# Altium integrated library SignalCommunications.IntLib: 804 symbols (part 1 of 10)
Pins are listed as number, name and electrical type; pins without a type are passive.

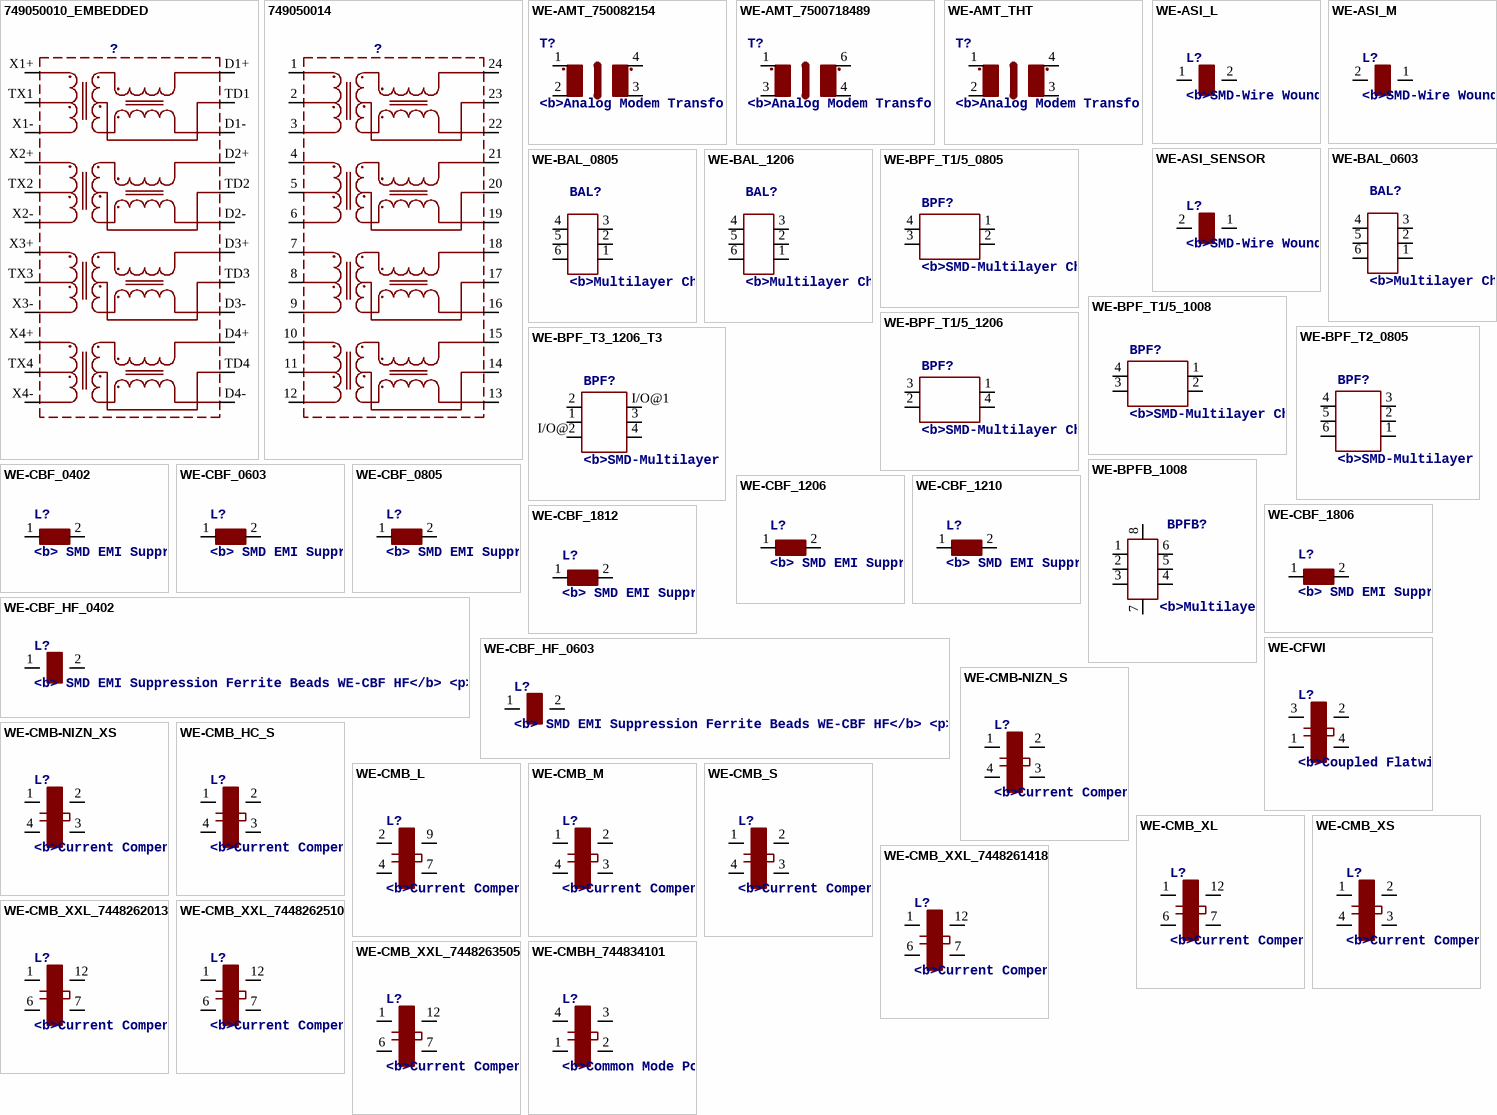
[diagram p0: symbols 749050010_EMBEDDED to WE-CMBH_744834101]

## 749050010_EMBEDDED
designator ?
pins: D1+, D1-, D2+, D2-, D3+, D3-, D4+, D4-, TD1, TD2, TD3, TD4, TX1, TX2, TX3, TX4, X1+, X1-, X2+, X2-, X3+, X3-, X4+, X4-

## 749050014
designator ?
footprint 749050010_A
pins: 1 X1+, 2 TX1, 3 X1-, 4 X2+, 5 TX2, 6 X2-, 7 X3+, 8 TX3, 9 X3-, 10 X4+, 11 TX4, 12 X4-, 13 D4-, 14 TD4, 15 D4+, 16 D3-, 17 TD3, 18 D3+, 19 D2-, 20 TD2, 21 D2+, 22 D1-, 23 TD1, 24 D1+

## WE-AMT_750082154
designator T?, comment <b>Analog Modem Transformer WE-AMT</b><p> / - SMD and THT<br> / - Small size<br> / - Flat profile<br> / - V.90 performance (SmartDAA TM)<br> / - Released for Conexant SmartDAA TM solution<br><br> / -- Analog Modems
footprint WE-AMT_750082154
pins: 1, 2 3, 3 4, 4 6

## WE-AMT_7500718489
designator T?, comment <b>Analog Modem Transformer WE-AMT</b><p> / - SMD and THT<br> / - Small size<br> / - Flat profile<br> / - V.90 performance (SmartDAA TM)<br> / - Released for Conexant SmartDAA TM solution<br><br> / -- Analog Modems
footprint WE-AMT_7500718489
pins: 1, 3, 4, 6

## WE-AMT_THT
designator T?, comment <b>Analog Modem Transformer WE-AMT</b><p> / - SMD and THT<br> / - Small size<br> / - Flat profile<br> / - V.90 performance (SmartDAA TM)<br> / - Released for Conexant SmartDAA TM solution<br><br> / -- Analog Modems
footprint WE-AMT_750082107_750082111_7500718001
pins: 1, 2 3, 3 4, 4 6

## WE-ASI_L
designator L?, comment <b>SMD-Wire Wound Inductor WE-ASI</b><p> / - Specially constructed for sensors and actuators<br> / - Highest possible current in the smallest case size<br> / - High self resonant frequency<br><br> / -- Especially designed for Automation Standard Interface applications
footprint WE-ASI_L
pins: 1, 2

## WE-ASI_M
designator L?, comment <b>SMD-Wire Wound Inductor WE-ASI</b><p> / - Specially constructed for sensors and actuators<br> / - Highest possible current in the smallest case size<br> / - High self resonant frequency<br><br> / -- Especially designed for Automation Standard Interface applications
footprint WE-ASI_M
pins: 1 2, 2 1

## WE-ASI_SENSOR
designator L?, comment <b>SMD-Wire Wound Inductor WE-ASI</b><p> / - Specially constructed for sensors and actuators<br> / - Highest possible current in the smallest case size<br> / - High self resonant frequency<br><br> / -- Especially designed for Automation Standard Interface applications
footprint WE-ASI_SENSOR
pins: 1 2, 2 1

## WE-BAL_0603
designator BAL?, comment <b>Multilayer Chip Baluns WE-BAL</b><p> / - Low loss SMD Balun with balanced impedance of 50 to 200 Ohm<br> / - Operating temperature: -40°C to +85°C<br> / - Power Capacity: 3 W max.<br><br> / -- RF-applications in the area of 0.8 to 6 GHz<br> / -- Download S-Parameter on www.we-online.com<br> / -- Wireless communication systems like DECT, PACS, PHS, GSM, WLAN, Bluetooth
footprint WE-BAL_0603
pins: 1, 2, 3, 4, 5, 6

## WE-BAL_0805
designator BAL?, comment <b>Multilayer Chip Baluns WE-BAL</b><p> / - Low loss SMD Balun with balanced impedance of 50 to 200 Ohm<br> / - Operating temperature: -40°C to +85°C<br> / - Power Capacity: 3 W max.<br><br> / -- RF-applications in the area of 0.8 to 6 GHz<br> / -- Download S-Parameter on www.we-online.com<br> / -- Wireless communication systems like DECT, PACS, PHS, GSM, WLAN, Bluetooth
footprint WE-BAL_0805
pins: 1, 2, 3, 4, 5, 6

## WE-BAL_1206
designator BAL?, comment <b>Multilayer Chip Baluns WE-BAL</b><p> / - Low loss SMD Balun with balanced impedance of 50 to 200 Ohm<br> / - Operating temperature: -40°C to +85°C<br> / - Power Capacity: 3 W max.<br><br> / -- RF-applications in the area of 0.8 to 6 GHz<br> / -- Download S-Parameter on www.we-online.com<br> / -- Wireless communication systems like DECT, PACS, PHS, GSM, WLAN, Bluetooth
footprint WE-BAL_1206
pins: 1, 2, 3, 4, 5, 6

## WE-BPF_T1/5_0805
designator BPF?, comment <b>SMD-Multilayer Chip Band-Pass Filter WE-BPF</b><p> / - low insertion loss<br> / - High attenuation<br> / - Guaranteed filter characteristics over a wide temperature range<p> / -- Rf applications in the frequency range up to 6GHz<br> / -- Wireless communcation systems like DECT, PACS, PHS, GSM,WLAN,Bluetooth,..
footprint WE-BPF_0805_T1
pins: 1 GND, 2 OUT, 3 GND, 4 IN

## WE-BPF_T1/5_1008
designator BPF?, comment <b>SMD-Multilayer Chip Band-Pass Filter WE-BPF</b><p> / - low insertion loss<br> / - High attenuation<br> / - Guaranteed filter characteristics over a wide temperature range<p> / -- Rf applications in the frequency range up to 6GHz<br> / -- Wireless communcation systems like DECT, PACS, PHS, GSM,WLAN,Bluetooth,..
footprint WE-BPF_1008_T5
pins: 1 GND, 2 OUT, 3 GND, 4 IN

## WE-BPF_T1/5_1206
designator BPF?, comment <b>SMD-Multilayer Chip Band-Pass Filter WE-BPF</b><p> / - low insertion loss<br> / - High attenuation<br> / - Guaranteed filter characteristics over a wide temperature range<p> / -- Rf applications in the frequency range up to 6GHz<br> / -- Wireless communcation systems like DECT, PACS, PHS, GSM,WLAN,Bluetooth,..
footprint WE-BPF_1206_T1
pins: 1 GND, 2 GND, 3 IN, 4 OUT

## WE-BPF_T2_0805
designator BPF?, comment <b>SMD-Multilayer Chip Band-Pass Filter WE-BPF</b><p> / - low insertion loss<br> / - High attenuation<br> / - Guaranteed filter characteristics over a wide temperature range<p> / -- Rf applications in the frequency range up to 6GHz<br> / -- Wireless communcation systems like DECT, PACS, PHS, GSM,WLAN,Bluetooth,..
footprint WE-BPF_0805_T2
pins: 1 GND, 2 GND, 3 I/O, 4 GND, 5 GND, 6 I/O

## WE-BPF_T3_1206_T3
designator BPF?, comment <b>SMD-Multilayer Chip Band-Pass Filter WE-BPF</b><p> / - low insertion loss<br> / - High attenuation<br> / - Guaranteed filter characteristics over a wide temperature range<p> / -- Rf applications in the frequency range up to 6GHz<br> / -- Wireless communcation systems like DECT, PACS, PHS, GSM,WLAN,Bluetooth,..
footprint WE-BPF_1206_T3
pins: 1 GND, 2 GND, 3 GND, 4 GND, I/O@1 I/O, I/O@2 I/O

## WE-BPFB_1008
designator BPFB?, comment <b>Multilayer SMD Band-Pass Filter with Balun WE-BPFB</b><br> / <br> / - Low insertion loss<br> / - High attenuation in the stop zone<br> / - Impedance ration 50:100<br> / - Power capacity: 1 W max.<br> / - Operating temperature: -40°C up to +85°C<br><br> / -- 2,4 GHz WLAN<br> / -- Home RF<br> / -- Bluetooth
footprint WE-BPFB_1008
pins: 1 NC, 2 UNBAL.P, 3 NC/DC, 4 BAL.P, 5 NC, 6 BAL.P, 7 GND, 8 GND

## WE-CBF_0402
designator L?, comment <b> SMD EMI Suppression Ferrite Beads WE-CBF</b> <p> / - Excellent anti-EMI properties <br> / - Low DC-restistance <br> / - Impedances till 3000 ohms <br> / - Rated current up to 6 A<p> / -- Reliable Ni-Sn electrodes<br> / -- Perfect as data lined filter and for uncoupling of distribution voltage<br>
footprint 0402
pins: 1, 2

## WE-CBF_0603
designator L?, comment <b> SMD EMI Suppression Ferrite Beads WE-CBF</b> <p> / - Excellent anti-EMI properties <br> / - Low DC-restistance <br> / - Impedances till 3000 ohms <br> / - Rated current up to 6 A<p> / -- Reliable Ni-Sn electrodes<br> / -- Perfect as data lined filter and for uncoupling of distribution voltage<br>
footprint 0603
pins: 1, 2

## WE-CBF_0805
designator L?, comment <b> SMD EMI Suppression Ferrite Beads WE-CBF</b> <p> / - Excellent anti-EMI properties <br> / - Low DC-restistance <br> / - Impedances till 3000 ohms <br> / - Rated current up to 6 A<p> / -- Reliable Ni-Sn electrodes<br> / -- Perfect as data lined filter and for uncoupling of distribution voltage<br>
footprint 0805
pins: 1, 2

## WE-CBF_1206
designator L?, comment <b> SMD EMI Suppression Ferrite Beads WE-CBF</b> <p> / - Excellent anti-EMI properties <br> / - Low DC-restistance <br> / - Impedances till 3000 ohms <br> / - Rated current up to 6 A<p> / -- Reliable Ni-Sn electrodes<br> / -- Perfect as data lined filter and for uncoupling of distribution voltage<br>
footprint 1206
pins: 1, 2

## WE-CBF_1210
designator L?, comment <b> SMD EMI Suppression Ferrite Beads WE-CBF</b> <p> / - Excellent anti-EMI properties <br> / - Low DC-restistance <br> / - Impedances till 3000 ohms <br> / - Rated current up to 6 A<p> / -- Reliable Ni-Sn electrodes<br> / -- Perfect as data lined filter and for uncoupling of distribution voltage<br>
footprint 1210
pins: 1, 2

## WE-CBF_1806
designator L?, comment <b> SMD EMI Suppression Ferrite Beads WE-CBF</b> <p> / - Excellent anti-EMI properties <br> / - Low DC-restistance <br> / - Impedances till 3000 ohms <br> / - Rated current up to 6 A<p> / -- Reliable Ni-Sn electrodes<br> / -- Perfect as data lined filter and for uncoupling of distribution voltage<br>
footprint 1806
pins: 1, 2

## WE-CBF_1812
designator L?, comment <b> SMD EMI Suppression Ferrite Beads WE-CBF</b> <p> / - Excellent anti-EMI properties <br> / - Low DC-restistance <br> / - Impedances till 3000 ohms <br> / - Rated current up to 6 A<p> / -- Reliable Ni-Sn electrodes<br> / -- Perfect as data lined filter and for uncoupling of distribution voltage<br>
footprint 1812
pins: 1, 2

## WE-CBF_HF_0402
designator L?, comment <b> SMD EMI Suppression Ferrite Beads WE-CBF HF</b> <p>
footprint 0402
pins: 1, 2

## WE-CBF_HF_0603
designator L?, comment <b> SMD EMI Suppression Ferrite Beads WE-CBF HF</b> <p>
footprint 0603
pins: 1, 2

## WE-CFWI
designator L?, comment <b>Coupled Flatwire Inductor WE-CFWI</b><p> / - Very low RDC<br> / - Low inductance drift over temperature<br> / - Operating temperature: –40 °C up to +150 °C<br> / - Coupled inductor with two identical windings<br> / - More variants due to parallel and serie connection<p> / -- High power switching regulators<br> / -- 1:1 flyback converter<br> / --  Buck, Boost, Sepic and Cuk Converter<br> / -- Switching regulators with secondary unregulated output voltage<br> / -- Battery Cell Charging Balancer
MANUFACTURER: Würth Elektronik eiSos GmbH; CREATED-BY: Christin Otto; COMPANY-URL: http://we-online.de; CREATED-DATE: August 2013; DATASHEET-URL: http://katalog.we-online.de/de/pbs/WE-CFWI?sid=1d9d32b2a9
footprint WE-CFWI
pins: 1, 2 4, 3, 4 2

## WE-CMB-NIZN_S
designator L?, comment <b>Current Compensated Choke WE-CMB NiZn</b><p> / You can reach high suppressions of asymmetric <br> / interferences at middle and high frequency ranges<br> / - Increases noise immunity with HF-irradiation and burst-signals <br> / - Noise suppression up to 300 MHz<br> / <br> / -- Power electronics<br> / -- Power line in- and output filter<br>
footprint WE-CMB_NIZN_S
pins: 1 3, 2 4, 3 2, 4 1

## WE-CMB-NIZN_XS
designator L?, comment <b>Current Compensated Choke WE-CMB NiZn</b><p> / You can reach high suppressions of asymmetric <br> / interferences at middle and high frequency ranges<br> / - Increases noise immunity with HF-irradiation and burst-signals <br> / - Noise suppression up to 300 MHz<br> / <br> / -- Power electronics<br> / -- Power line in- and output filter<br>
footprint WE-CMB_NIZN_XS
pins: 1 3, 2 4, 3 2, 4 1

## WE-CMB_HC_S
designator L?, comment <b>Current Compensated Choke WE-CMB HC</b><p> / You can reach high suppressions of asymmetric <br> / interferences even at low frequency ranges<br> / - Broadband screening because of anticapacitance coiling technique<br> / - Highest posssible current with small sizes<br> / - High interference comppression asymmetric interlerence rates also at low frequenca range<br> / <br> / -- Power electronics<br> / -- Power line in- and output filter<br> / -- For filtering of devices without a stable ground connection<br> / -- Radio interference suppression in motors
footprint WE-CMB_HC_S
pins: 1 3, 2 4, 3 2, 4 1

## WE-CMB_L
designator L?, comment <b>Current Compensated Choke WE-CMB</b><p> / You can reach high suppressions of asymmetric <br> / interferences even at low frequency ranges<br> / - Broadband screening because of anticapacitance coiling technique<br> / - Highest posssible current with small sizes<br> / - High interference comppression asymmetric interlerence rates also at low frequenca range<br> / <br> / -- Power electronics<br> / -- Power line in- and output filter<br> / -- For filtering of devices without a stable ground connection<br> / -- Radio interference suppression in motors
footprint WE-CMB_L
pins: 2 3, 4 1, 7 2, 9 4

## WE-CMB_M
designator L?, comment <b>Current Compensated Choke WE-CMB</b><p> / You can reach high suppressions of asymmetric <br> / interferences even at low frequency ranges<br> / - Broadband screening because of anticapacitance coiling technique<br> / - Highest posssible current with small sizes<br> / - High interference comppression asymmetric interlerence rates also at low frequenca range<br> / <br> / -- Power electronics<br> / -- Power line in- and output filter<br> / -- For filtering of devices without a stable ground connection<br> / -- Radio interference suppression in motors
footprint WE-CMB_M
pins: 1 3, 2 4, 3 2, 4 1

## WE-CMB_S
designator L?, comment <b>Current Compensated Choke WE-CMB</b><p> / You can reach high suppressions of asymmetric <br> / interferences even at low frequency ranges<br> / - Broadband screening because of anticapacitance coiling technique<br> / - Highest posssible current with small sizes<br> / - High interference comppression asymmetric interlerence rates also at low frequenca range<br> / <br> / -- Power electronics<br> / -- Power line in- and output filter<br> / -- For filtering of devices without a stable ground connection<br> / -- Radio interference suppression in motors
footprint WE-CMB_S
pins: 1 3, 2 4, 3 2, 4 1

## WE-CMB_XL
designator L?, comment <b>Current Compensated Choke WE-CMB</b><p> / You can reach high suppressions of asymmetric <br> / interferences even at low frequency ranges<br> / - Broadband screening because of anticapacitance coiling technique<br> / - Highest posssible current with small sizes<br> / - High interference comppression asymmetric interlerence rates also at low frequenca range<br> / <br> / -- Power electronics<br> / -- Power line in- and output filter<br> / -- For filtering of devices without a stable ground connection<br> / -- Radio interference suppression in motors
footprint WE-CMB_XL
pins: 1 3, 6 1, 7 2, 12 4

## WE-CMB_XS
designator L?, comment <b>Current Compensated Choke WE-CMB</b><p> / You can reach high suppressions of asymmetric <br> / interferences even at low frequency ranges<br> / - Broadband screening because of anticapacitance coiling technique<br> / - Highest posssible current with small sizes<br> / - High interference comppression asymmetric interlerence rates also at low frequenca range<br> / <br> / -- Power electronics<br> / -- Power line in- and output filter<br> / -- For filtering of devices without a stable ground connection<br> / -- Radio interference suppression in motors
footprint WE-CMB_XS
pins: 1 3, 2 4, 3 2, 4 1

## WE-CMB_XXL_7448261418
designator L?, comment <b>Current Compensated Choke WE-CMB</b><p> / You can reach high suppressions of asymmetric <br> / interferences even at low frequency ranges<br> / - Broadband screening because of anticapacitance coiling technique<br> / - Highest posssible current with small sizes<br> / - High interference comppression asymmetric interlerence rates also at low frequenca range<br> / <br> / -- Power electronics<br> / -- Power line in- and output filter<br> / -- For filtering of devices without a stable ground connection<br> / -- Radio interference suppression in motors
footprint WE-CMB_XXL_7448261418
pins: 1 3, 6 1, 7 2, 12 4

## WE-CMB_XXL_7448262013
designator L?, comment <b>Current Compensated Choke WE-CMB</b><p> / You can reach high suppressions of asymmetric <br> / interferences even at low frequency ranges<br> / - Broadband screening because of anticapacitance coiling technique<br> / - Highest posssible current with small sizes<br> / - High interference comppression asymmetric interlerence rates also at low frequenca range<br> / <br> / -- Power electronics<br> / -- Power line in- and output filter<br> / -- For filtering of devices without a stable ground connection<br> / -- Radio interference suppression in motors
footprint WE-CMB_XXL_7448262013
pins: 1 3, 6 1, 7 2, 12 4

## WE-CMB_XXL_7448262510
designator L?, comment <b>Current Compensated Choke WE-CMB</b><p> / You can reach high suppressions of asymmetric <br> / interferences even at low frequency ranges<br> / - Broadband screening because of anticapacitance coiling technique<br> / - Highest posssible current with small sizes<br> / - High interference comppression asymmetric interlerence rates also at low frequenca range<br> / <br> / -- Power electronics<br> / -- Power line in- and output filter<br> / -- For filtering of devices without a stable ground connection<br> / -- Radio interference suppression in motors
footprint WE-CMB_XXL_7448262510
pins: 1 3, 6 1, 7 2, 12 4

## WE-CMB_XXL_7448263505
designator L?, comment <b>Current Compensated Choke WE-CMB</b><p> / You can reach high suppressions of asymmetric <br> / interferences even at low frequency ranges<br> / - Broadband screening because of anticapacitance coiling technique<br> / - Highest posssible current with small sizes<br> / - High interference comppression asymmetric interlerence rates also at low frequenca range<br> / <br> / -- Power electronics<br> / -- Power line in- and output filter<br> / -- For filtering of devices without a stable ground connection<br> / -- Radio interference suppression in motors
footprint WE-CMB_XXL_7448263505
pins: 1 3, 6 1, 7 2, 12 4

## WE-CMBH_744834101
designator L?, comment <b>Common Mode Power Line Choke WE-CMBH</b><p> / You can reach high suppressions of asymmetric <br> / interferences even at low frequency ranges<br> / <b>- Horizontal design for compact housings</b><br> / - Suppression even at low frequency ranges<br> / - Broadband filtering because of low capacitance winding technique <bR> / - Highest possible currents with small sizes<br> / <br> / -- Power electronics<br> / -- Power line in- and output filter<br> / -- Radio interference suppression in motors<br> / -- Suppression of common mode noise
footprint WE-CMBH_1.5MM
pins: 1, 2, 3 4, 4 3

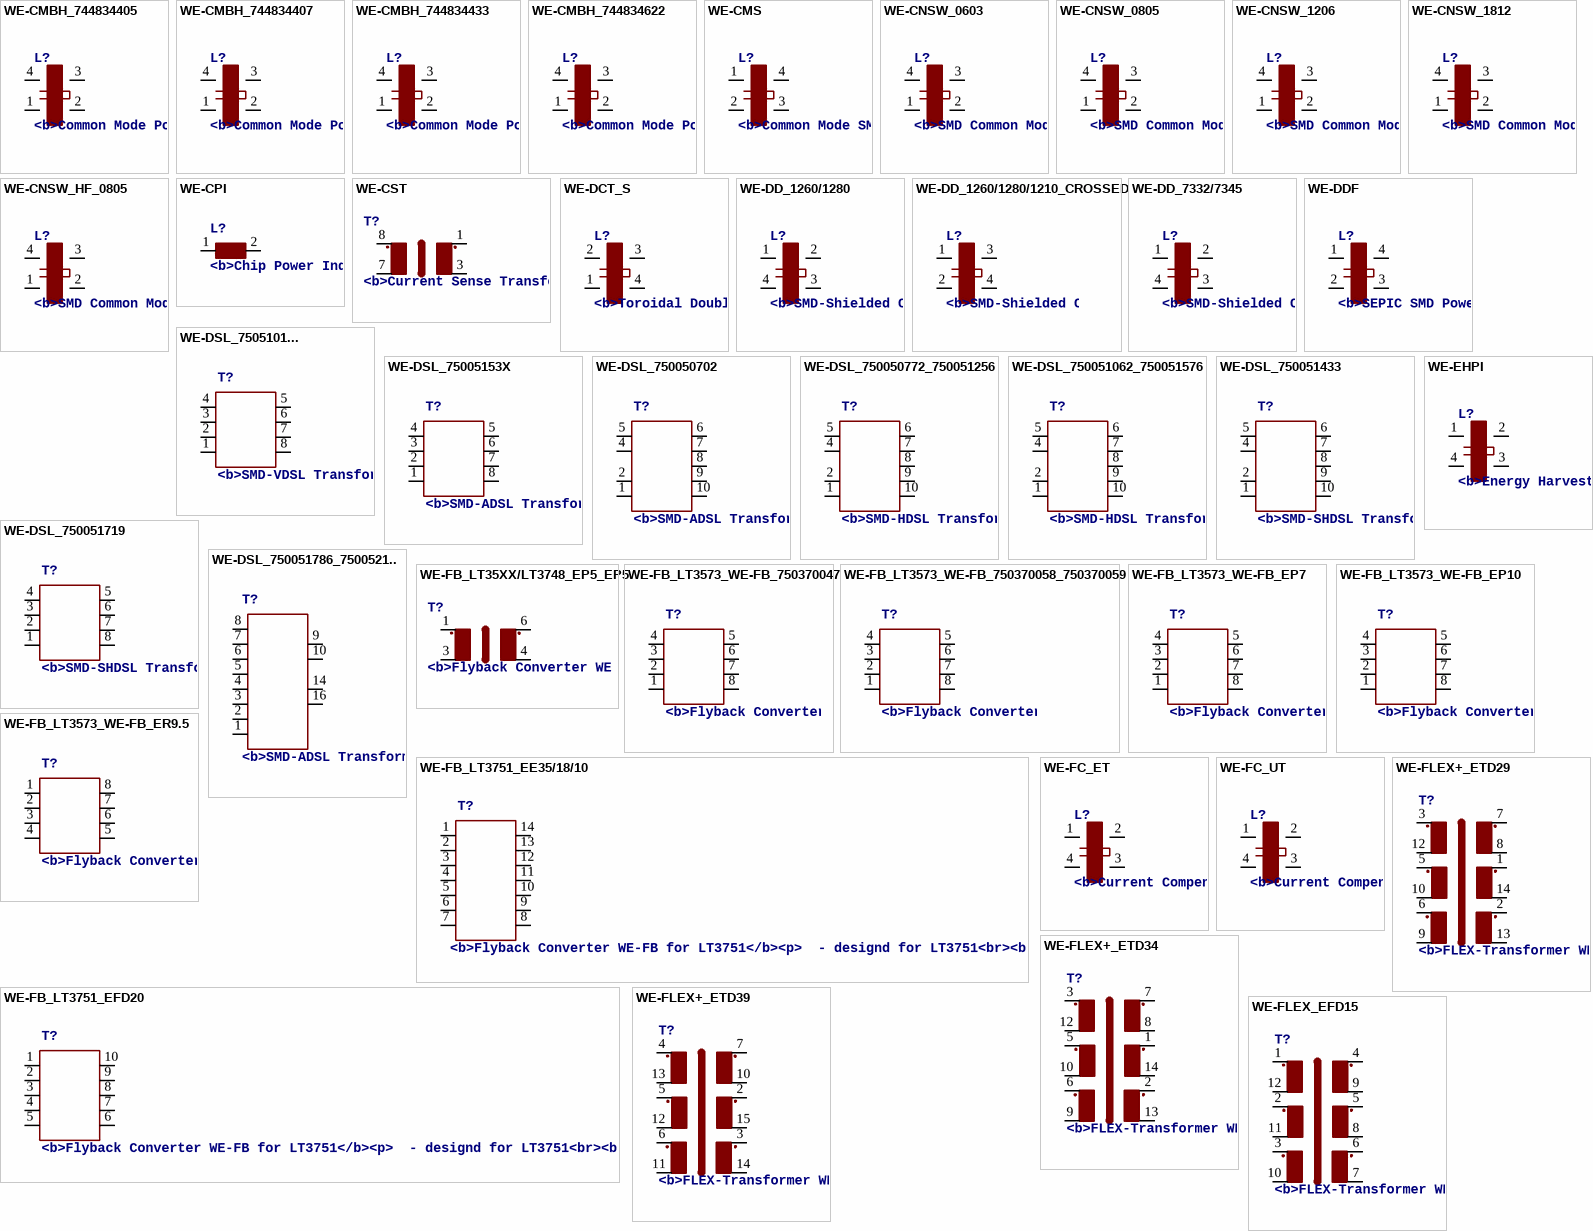
[diagram p1: symbols WE-CMBH_744834405 to WE-FLEX_EFD15]

## WE-CMBH_744834405
designator L?, comment <b>Common Mode Power Line Choke WE-CMBH</b><p> / You can reach high suppressions of asymmetric <br> / interferences even at low frequency ranges<br> / <b>- Horizontal design for compact housings</b><br> / - Suppression even at low frequency ranges<br> / - Broadband filtering because of low capacitance winding technique <bR> / - Highest possible currents with small sizes<br> / <br> / -- Power electronics<br> / -- Power line in- and output filter<br> / -- Radio interference suppression in motors<br> / -- Suppression of common mode noise
footprint WE-CMBH_1.2MM
pins: 1, 2, 3 4, 4 3

## WE-CMBH_744834407
designator L?, comment <b>Common Mode Power Line Choke WE-CMBH</b><p> / You can reach high suppressions of asymmetric <br> / interferences even at low frequency ranges<br> / <b>- Horizontal design for compact housings</b><br> / - Suppression even at low frequency ranges<br> / - Broadband filtering because of low capacitance winding technique <bR> / - Highest possible currents with small sizes<br> / <br> / -- Power electronics<br> / -- Power line in- and output filter<br> / -- Radio interference suppression in motors<br> / -- Suppression of common mode noise
footprint WE-CMBH_1.2MM
pins: 1, 2, 3 4, 4 3

## WE-CMBH_744834433
designator L?, comment <b>Common Mode Power Line Choke WE-CMBH</b><p> / You can reach high suppressions of asymmetric <br> / interferences even at low frequency ranges<br> / <b>- Horizontal design for compact housings</b><br> / - Suppression even at low frequency ranges<br> / - Broadband filtering because of low capacitance winding technique <bR> / - Highest possible currents with small sizes<br> / <br> / -- Power electronics<br> / -- Power line in- and output filter<br> / -- Radio interference suppression in motors<br> / -- Suppression of common mode noise
footprint WE-CMBH_1.2MM
pins: 1, 2, 3 4, 4 3

## WE-CMBH_744834622
designator L?, comment <b>Common Mode Power Line Choke WE-CMBH</b><p> / You can reach high suppressions of asymmetric <br> / interferences even at low frequency ranges<br> / <b>- Horizontal design for compact housings</b><br> / - Suppression even at low frequency ranges<br> / - Broadband filtering because of low capacitance winding technique <bR> / - Highest possible currents with small sizes<br> / <br> / -- Power electronics<br> / -- Power line in- and output filter<br> / -- Radio interference suppression in motors<br> / -- Suppression of common mode noise
footprint WE-CMBH_1.5MM
pins: 1, 2, 3 4, 4 3

## WE-CMS
designator L?, comment <b>Common Mode SMD Bead WE-CMA</b><p> / - Maximum current capability up to 5 A<br> / - Impedances up to 200 ohms<br> / - Low DC resistance with 3 mohms<p> / -- Power supply systems<br> / -- Symmetric data line
footprint WE-CMS_7427521
pins: 1 3, 2 1, 3 2, 4

## WE-CNSW_0603
designator L?, comment <b>SMD Common Mode Noise Suppressor WE-CNSW</b><p> / - High common mode suppression at high frequency<br> / - Small influence for high speed signals through winding symmetry<br><br> / -- USB 2.0<br> / -- Firewire / IEEE 1394 <br> / -- Power supply systems<br> / -- High Speed Data Lines<br> / -- Common mode data line filter
footprint WE-CNSW_0603
pins: 1, 2, 3 4, 4 3

## WE-CNSW_0805
designator L?, comment <b>SMD Common Mode Noise Suppressor WE-CNSW</b><p> / - High common mode suppression at high frequency<br> / - Small influence for high speed signals through winding symmetry<br><br> / -- USB 2.0<br> / -- Firewire / IEEE 1394 <br> / -- Power supply systems<br> / -- High Speed Data Lines<br> / -- Common mode data line filter
footprint WE-CNSW_0805
pins: 1, 2, 3 4, 4 3

## WE-CNSW_1206
designator L?, comment <b>SMD Common Mode Noise Suppressor WE-CNSW</b><p> / - High common mode suppression at high frequency<br> / - Small influence for high speed signals through winding symmetry<br><br> / -- USB 2.0<br> / -- Firewire / IEEE 1394 <br> / -- Power supply systems<br> / -- High Speed Data Lines<br> / -- Common mode data line filter
footprint WE-CNSW_1206
pins: 1, 2, 3 4, 4 3

## WE-CNSW_1812
designator L?, comment <b>SMD Common Mode Noise Suppressor WE-CNSW</b><p> / - High common mode suppression at high frequency<br> / - Small influence for high speed signals through winding symmetry<br><br> / -- USB 2.0<br> / -- Firewire / IEEE 1394 <br> / -- Power supply systems<br> / -- High Speed Data Lines<br> / -- Common mode data line filter
footprint WE-CNSW_1812
pins: 1, 2, 3 4, 4 3

## WE-CNSW_HF_0805
designator L?, comment <b>SMD Common Mode Noise Suppressor WE-CNSW HF</b><p> / - High common mode suppression at high frequency<br> / - Small influence for high speed signals through winding symmetry<br> / - Suitable for high data rates<br><br> / -- USB 3.0<br> / -- Firewire / IEEE 1394 <br> / -- HDMI<br> / -- High Speed Data Lines<br> / -- LVDS<br> / -- Common mode data line filter
footprint WE-CNSW_0805
pins: 1, 2, 3 4, 4 3

## WE-CPI
designator L?, comment <b>Chip Power Inductor WE-CPI</b><br><br> / - Extremely flat power inductor <= 1,1 mm<br> / - High current capability<br><br> / -- Portable power like PDA, digital camera, / PCMICA-cards and displays<br> / -- DC/DC-converter<br> / -- Recommended for switching regulator IC's from / Linear Technology, National Semiconductor, / Texas Instruments and Fairchild Semiconductor
footprint WE-CPI_744011...
pins: 1, 2

## WE-CST
designator T?, comment <b>Current Sense Transformer WE-CST</b><p> / - Height 5.33 mm max.<br> / - Frequency 50 kHz to 1 MHz<br> / - Primary current rating up to 10 A<br><br> / -- AC current detection<br> / -- Switch mode power supply
footprint WE-CST
pins: 1 6, 3 4, 7 3, 8 1

## WE-DCT_S
designator L?, comment <b>Toroidal Double Power Choke WE-DCT</b><br><br> / - very low RDC<br> / - very low core losses<br> / - saturation current higher up to 120A<br> / - low inductance drift over temerature<br> / - low laekage due to bifilar winding<br><br> / -- high power switching regulators<br> / -- solar inverter<br> / -- 1:1 flyback converter<br> / -- buck, bust, sepic and CUK converter
footprint WE-DCT
pins: 1, 2 3, 3 4, 4 2

## WE-DD_1260/1280
designator L?, comment <b>SMD-Shielded Coupled Inductor WE-DD </b><p> / - 1:1 transformer <br> / - Double inductor with two identical windings<br> / - Straight and crossed pin layout available<br> / - Customer specific designs available upon request<p> / -- for SEPIC and CUK topologies<br> / -- Flyback applications<br> / -- Switching regulators with second, unregulated output voltag
footprint WE-DD_1260/1280
pins: 1 3, 2 4, 3 2, 4 1

## WE-DD_1260/1280/1210_CROSSED
designator L?, comment <b>SMD-Shielded Coupled Inductor WE-DD </b><p> / - 1:1 transformer <br> / - Double inductor with two identical windings<br> / - Straight and crossed pin layout available<br> / - Customer specific designs available upon request<p> / -- for SEPIC and CUK topologies<br> / -- Flyback applications<br> / -- Switching regulators with second, unregulated output voltag
footprint WE-DD_12XX_CROSSED
pins: 1 3, 2 1, 3 4, 4 2

## WE-DD_7332/7345
designator L?, comment <b>SMD-Shielded Coupled Inductor WE-DD </b><p> / - 1:1 transformer <br> / - Double inductor with two identical windings<br> / - Straight and crossed pin layout available<br> / - Customer specific designs available upon request<p> / -- for SEPIC and CUK topologies<br> / -- Flyback applications<br> / -- Switching regulators with second, unregulated output voltag
footprint WE-DD_7332/7345
pins: 1 3, 2 4, 3 2, 4 1

## WE-DDF
designator L?, comment <b>SEPIC SMD Power Transformer WE-DDF</b><br><br> / - Extremely flat<br> / - 1:1 transformer<br> / - Double inductor with two identical windings<br><br> / -- SEPIC-switching regulators<br> / -- Switching regulators with second, / unregulated output voltage
footprint WE-DDF_744876...
pins: 1 3, 2 1, 3 2, 4

## WE-DSL_7505101...
designator T?, comment <b>SMD-VDSL Transformer WE-DSL</b><p> / - IEC60950 compatible<br><br> / -- for VDSL applications<br> / -- Matched to various manufacturers VDSL ICs
footprint WE_EP7_SMD_8PIN
pins: 1, 2, 3, 4, 5, 6, 7, 8

## WE-DSL_75005153X
designator T?, comment <b>SMD-ADSL Transformer WE-DSL</b><p> / - IEC60950 compatible<br><br> / -- for ADSL applications<br> / -- Matched to various manufacturers ADSL ICs
footprint WE_EP7_SMD_8PIN
pins: 1, 2, 3, 4, 5, 6, 7, 8

## WE-DSL_750050702
designator T?, comment <b>SMD-ADSL Transformer WE-DSL</b><p> / - IEC60950 compatible<br><br> / -- for ADSL applications<br> / -- Matched to various manufacturers ADSL ICs
footprint WE_EP13_SMD_9PIN
pins: 1, 2, 4, 5, 6, 7, 8, 9, 10

## WE-DSL_750050772_750051256
designator T?, comment <b>SMD-HDSL Transformer WE-DSL</b><p> / - IEC60950 compatible<br><br> / -- for HDSL applications<br> / -- Matched to various manufacturers HDSL ICs
footprint WE_EP13_THT_9PIN
pins: 1, 2, 4, 5, 6, 7, 8, 9, 10

## WE-DSL_750051062_750051576
designator T?, comment <b>SMD-HDSL Transformer WE-DSL</b><p> / - IEC60950 compatible<br><br> / -- for HDSL applications<br> / -- Matched to various manufacturers HDSL ICs
footprint WE_EP13_SMD_9PIN
pins: 1, 2, 4, 5, 6, 7, 8, 9, 10

## WE-DSL_750051433
designator T?, comment <b>SMD-SHDSL Transformer WE-DSL</b><p> / - IEC60950 compatible<br><br> / -- for SHDSL applications<br> / -- Matched to various manufacturers SHDSL ICs
footprint WE_EP13_THT_9PIN
pins: 1, 2, 4, 5, 6, 7, 8, 9, 10

## WE-DSL_750051719
designator T?, comment <b>SMD-SHDSL Transformer WE-DSL</b><p> / - IEC60950 compatible<br><br> / -- for SHDSL applications<br> / -- Matched to various manufacturers SHDSL ICs
footprint WE_EPX9_SMD_8PIN
pins: 1, 2, 3, 4, 5, 6, 7, 8

## WE-DSL_750051786_7500521..
designator T?, comment <b>SMD-ADSL Transformer WE-DSL</b><p> / - IEC60950 compatible<br><br> / -- for ADSL applications<br> / -- Matched to various manufacturers ADSL ICs
footprint WE_EP13_SMD_12PIN
pins: 1, 2, 3, 4, 5, 6, 7, 8, 9, 10, 14 11, 16 12

## WE-EHPI
designator L?, comment <b>Energy Harvesting Coupled Inductor WE-EHPI</b><p> / - Low profile: 4 mm <br> / - Small footprint 6 x 6 mm <br> / - Very low secondary RDC<br> / - Multiple options of turn ratios available <br> / - Separated welding/soldering pads for increased reliability<br> / - Optimized winding technology for increased performance & reliability<br> / <br> / - Wireless fire, alarm, gas and metering remote sensors driven by environmental energies based on energy harvesting <br> / - Sensors with predictive battery replacements in applications which are difficult to access <br> / - Energy self-sufficient supply using subsequent installed sensors for energy harvesting <br>
MANUFACTURER: Würth Elektronik eiSos GmbH; CREATED-BY: Christin Otto; COMPANY-URL: http://we-online.de; CREATED-DATE: March 2013; DATASHEET-URL: http://katalog.we-online.de/de/pbs/WE-EHPI?sid=1d9d32b2a9
footprint WE-EHPI
pins: 1 3, 2 4, 3 2, 4 1

## WE-FB_LT35XX/LT3748_EP5_EP5
designator T?, comment <b>Flyback Converter WE-FB for LT35xx / LT3748</b><p> / - Input voltage: 8-15 V<br> / - Output power: <10 W<br> / - Isolation voltage: 2.5 kV<br> / - designd for LT35xx / LT3748<br><br> / -- Industrial input voltage
footprint WE_EP5_SMD_6PIN
pins: 1, 3, 4, 6

## WE-FB_LT3573_WE-FB_750370047
designator T?, comment <b>Flyback Converter WE-FB for LT3573</b><p> / - Input voltage: 24 V<br> / - Output power: 5 W<br> / - Isolation voltage: 1.5 kV<br> / - designd for LT3573<br><br> / -- Industrial input voltage
footprint WE_EP7*_750370047
pins: 1, 2, 3, 4, 5, 6, 7, 8

## WE-FB_LT3573_WE-FB_750370058_750370059
designator T?, comment <b>Flyback Converter WE-FB for LT3573</b><p> / - Input voltage: 24 V<br> / - Output power: 5 W<br> / - Isolation voltage: 1.5 kV<br> / - designd for LT3573<br><br> / -- Industrial input voltage
footprint WE_EP7*_750370058_750370059
pins: 1, 2, 3, 4, 5, 6, 7, 8

## WE-FB_LT3573_WE-FB_EP7
designator T?, comment <b>Flyback Converter WE-FB for LT3573</b><p> / - Input voltage: 24 V<br> / - Output power: 5 W<br> / - Isolation voltage: 1.5 kV<br> / - designd for LT3573<br><br> / -- Industrial input voltage
footprint WE_EP7_SMD_8PIN
pins: 1, 2, 3, 4, 5, 6, 7, 8

## WE-FB_LT3573_WE-FB_EP10
designator T?, comment <b>Flyback Converter WE-FB for LT3573</b><p> / - Input voltage: 24 V<br> / - Output power: 5 W<br> / - Isolation voltage: 1.5 kV<br> / - designd for LT3573<br><br> / -- Industrial input voltage
footprint WE_EP10_SMD_8PIN
pins: 1, 2, 3, 4, 5, 6, 7, 8

## WE-FB_LT3573_WE-FB_ER9.5
designator T?, comment <b>Flyback Converter WE-FB for LT3573</b><p> / - Input voltage: 24 V<br> / - Output power: 5 W<br> / - Isolation voltage: 1.5 kV<br> / - designd for LT3573<br><br> / -- Industrial input voltage
footprint WE_ER9.5_SMD_8PIN
pins: 1 4, 2 3, 3 2, 4 1, 5 8, 6 7, 7 6, 8 5

## WE-FB_LT3751_EE35/18/10
designator T?, comment <b>Flyback Converter WE-FB for LT3751</b><p> / - designd for LT3751<br><br>
footprint WE_EE35/18/10_THT_HORIZONTAL_14PIN
pins: 1, 2, 3, 4, 5, 6, 7, 8, 9, 10, 11, 12, 13, 14

## WE-FB_LT3751_EFD20
designator T?, comment <b>Flyback Converter WE-FB for LT3751</b><p> / - designd for LT3751<br><br>
footprint WE_EFD20_SMD_10PIN
pins: 1, 2, 3, 4, 5, 6, 7, 8, 9, 10

## WE-FC_ET
designator L?, comment <b>Current Compensated Power Line Choke WE-FC</b><p> / - Closed rectangular ferrit core<br> / - 2-section winding for excellent high frequency performance<br> / - 1% stray inductance for symmetrical interference suppression<br> / - Recyclable due to no encapsulation<br> / - Rated voltage 250 VAC<br> / - Isolation voltage 2000 VAC<br><br> / -- Switch mode power supplies<br> / -- Electronic ballasts for lamps
footprint WE-FC_ET
pins: 1 3, 2 4, 3 2, 4 1

## WE-FC_UT
designator L?, comment <b>Current Compensated Power Line Choke WE-FC</b><p> / - Closed rectangular ferrit core<br> / - 2-section winding for excellent high frequency performance<br> / - 1% stray inductance for symmetrical interference suppression<br> / - Recyclable due to no encapsulation<br> / - Rated voltage 250 VAC<br> / - Isolation voltage 2000 VAC<br><br> / -- Switch mode power supplies<br> / -- Electronic ballasts for lamps
footprint WE-FC_UT
pins: 1 3, 2 4, 3 2, 4 1

## WE-FLEX+_ETD29
designator T?, comment <b>FLEX-Transformer WE-FLEX+</b><p> / - Transformer with 6 windings<br> / - Power up to 300W / - Insulation voltage 500 VDC<br> / - Low leakage inductance<br><br> / -- For all kinds of switching regulators: Flyback converters, Forward converters, Push- pull converters, SEPIC converter
footprint WE_ETD29_THT_14PIN
pins: 1 9, 2 11, 3 1, 5 3, 6 5, 7, 8, 9 6, 10 4, 12 2, 13 12, 14 10

## WE-FLEX+_ETD34
designator T?, comment <b>FLEX-Transformer WE-FLEX+</b><p> / - Transformer with 6 windings<br> / - Power up to 300W / - Insulation voltage 500 VDC<br> / - Low leakage inductance<br><br> / -- For all kinds of switching regulators: Flyback converters, Forward converters, Push- pull converters, SEPIC converter
footprint WE_ETD34_THT_14PIN
pins: 1 9, 2 11, 3 1, 5 3, 6 5, 7, 8, 9 6, 10 4, 12 2, 13 12, 14 10

## WE-FLEX+_ETD39
designator T?, comment <b>FLEX-Transformer WE-FLEX+</b><p> / - Transformer with 6 windings<br> / - Power up to 300W / - Insulation voltage 500 VDC<br> / - Low leakage inductance<br><br> / -- For all kinds of switching regulators: Flyback converters, Forward converters, Push- pull converters, SEPIC converter
footprint WE_ETD39_THT_16PIN
pins: 2 9, 3 11, 4 1, 5 3, 6 5, 7, 10 8, 11 6, 12 4, 13 2, 14 12, 15 10

## WE-FLEX_EFD15
designator T?, comment <b>FLEX-Transformer WE-FLEX</b><p> / Transformer with 6 windings<br> / - 4 sizes with 5 different lengths of air gap each<br> / - Insulation voltage 500 VDC<br> / - Low leakage inductance<br><br> / -- By using different circuits more than 300 transformer solutions and about 100 choke solution possible <br> / -- For all kinds of switching regulators: Flyback converters, Forward converters, Push- pull converters, SEPIC converter
footprint WE_EFD15_SMD_12PIN
pins: 1, 2 3, 3 5, 4 7, 5 9, 6 11, 7 12, 8 10, 9 8, 10 6, 11 4, 12 2

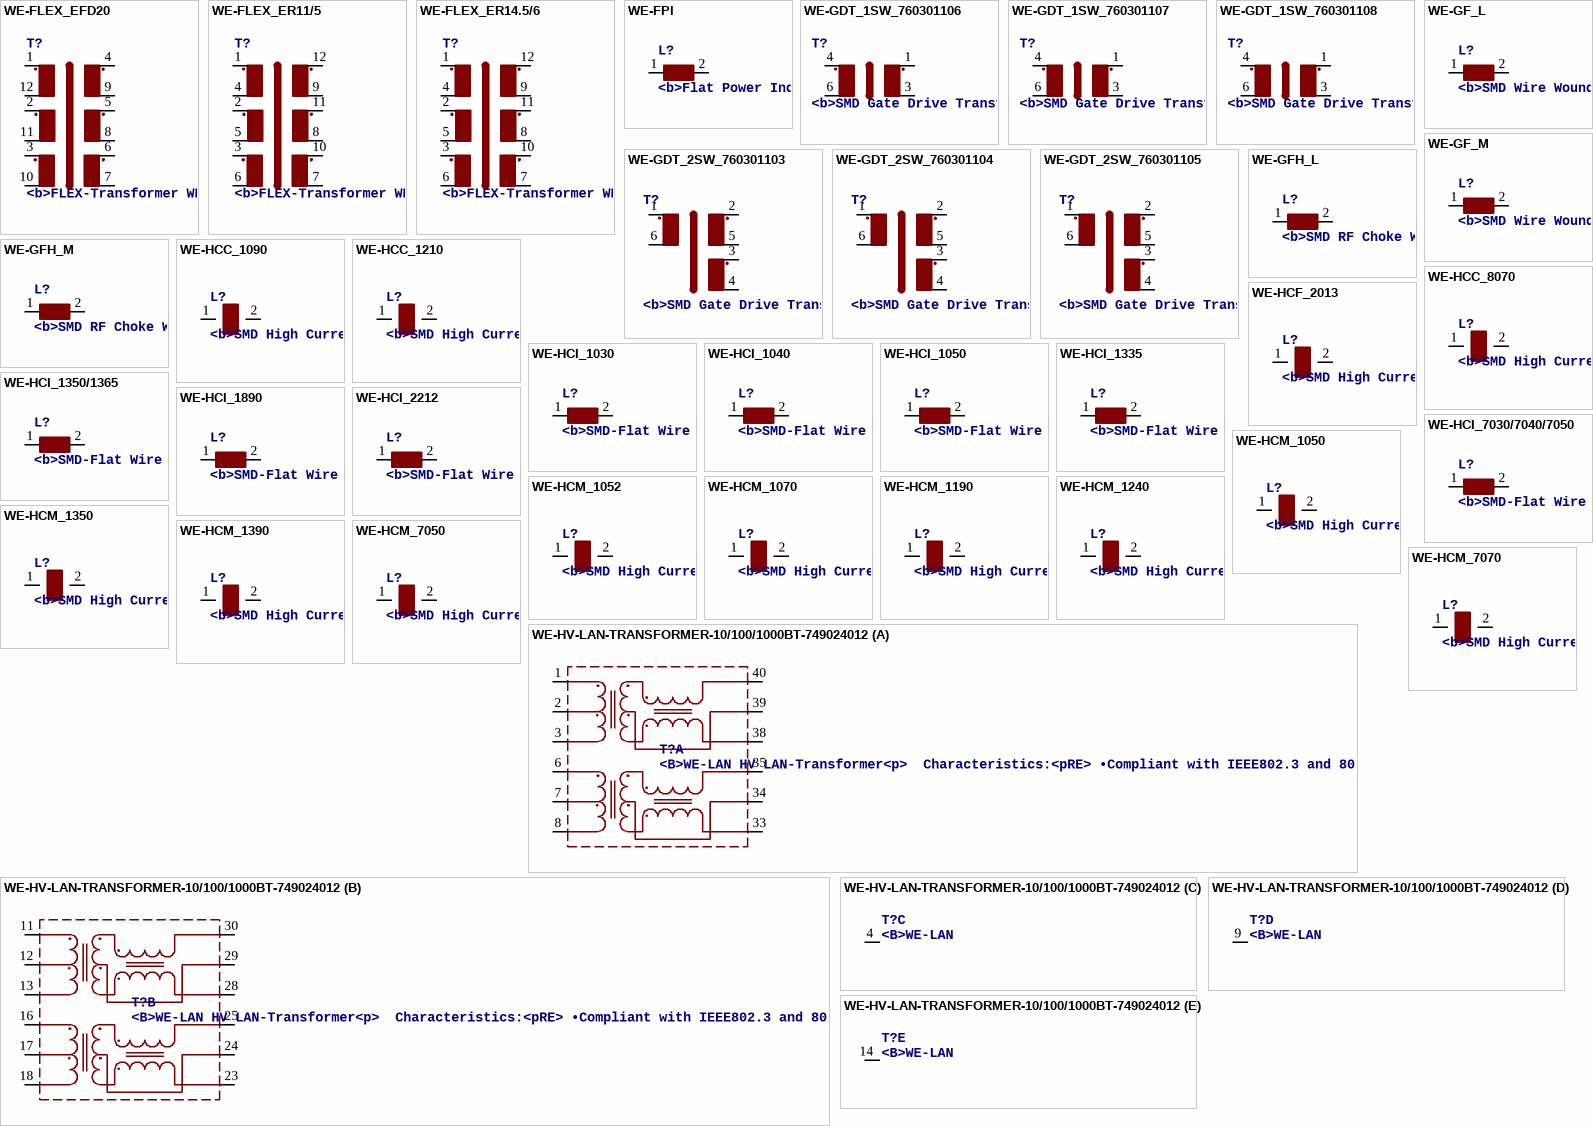
[diagram p2: symbols WE-FLEX_EFD20 to WE-HV-LAN-TRANSFORMER-10/100/1000BT-749024012]

## WE-FLEX_EFD20
designator T?, comment <b>FLEX-Transformer WE-FLEX</b><p> / Transformer with 6 windings<br> / - 4 sizes with 5 different lengths of air gap each<br> / - Insulation voltage 500 VDC<br> / - Low leakage inductance<br><br> / -- By using different circuits more than 300 transformer solutions and about 100 choke solution possible <br> / -- For all kinds of switching regulators: Flyback converters, Forward converters, Push- pull converters, SEPIC converter
footprint WE_EFD20_SMD_12PIN
pins: 1, 2 3, 3 5, 4 7, 5 9, 6 11, 7 12, 8 10, 9 8, 10 6, 11 4, 12 2

## WE-FLEX_ER11/5
designator T?, comment <b>FLEX-Transformer WE-FLEX</b><p> / Transformer with 6 windings<br> / - 4 sizes with 5 different lengths of air gap each<br> / - Insulation voltage 500 VDC<br> / - Low leakage inductance<br><br> / -- By using different circuits more than 300 transformer solutions and about 100 choke solution possible <br> / -- For all kinds of switching regulators: Flyback converters, Forward converters, Push- pull converters, SEPIC converter
footprint WE_ER11/5_SMD_12PIN
pins: 1, 2 3, 3 5, 4 2, 5 4, 6, 7 12, 8 10, 9 8, 10 11, 11 9, 12 7

## WE-FLEX_ER14.5/6
designator T?, comment <b>FLEX-Transformer WE-FLEX</b><p> / Transformer with 6 windings<br> / - 4 sizes with 5 different lengths of air gap each<br> / - Insulation voltage 500 VDC<br> / - Low leakage inductance<br><br> / -- By using different circuits more than 300 transformer solutions and about 100 choke solution possible <br> / -- For all kinds of switching regulators: Flyback converters, Forward converters, Push- pull converters, SEPIC converter
footprint WE_ER14.5/6_SMD_12PIN
pins: 1, 2 3, 3 5, 4 2, 5 4, 6, 7 12, 8 10, 9 8, 10 11, 11 9, 12 7

## WE-FPI
designator L?, comment <b>Flat Power Inductor WE-FPI</b><br><br> / - Extremely flat power inductor <= 1,1 mm<br> / - High current capability<br> / -- Portable power like PDA, digital camera, / PCMICA-cards and displays<br> / -- DC/DC-converter<br> / -- Recommended for switching regulator IC's from / Linear Technology, National Semiconductor, / Texas Instruments and Fairchild Semiconductor
footprint WE-FPI_744010...
pins: 1, 2

## WE-GDT_1SW_760301106
designator T?, comment <b>SMD Gate Drive Transformer WE-GDT</b><br><br> / - small form factor EP5<br> / - 1 or 2 secondary windings<br> / - 4 different turn rations<br> / - 1500VDC insulation test voltage<br> / - operating voltage up to 80V<br><br> / -- Gate Drive<br> / -- Signal<br> / -- Power<br> / -- Synchronous Flyback
footprint WE_EP5_SMD_6PIN
pins: 1 6, 3 4, 4 1, 6 3

## WE-GDT_1SW_760301107
designator T?, comment <b>SMD Gate Drive Transformer WE-GDT</b><br><br> / - small form factor EP5<br> / - 1 or 2 secondary windings<br> / - 4 different turn rations<br> / - 1500VDC insulation test voltage<br> / - operating voltage up to 80V<br><br> / -- Gate Drive<br> / -- Signal<br> / -- Power<br> / -- Synchronous Flyback
footprint WE_EP5_SMD_6PIN
pins: 1 6, 3 4, 4 1, 6 3

## WE-GDT_1SW_760301108
designator T?, comment <b>SMD Gate Drive Transformer WE-GDT</b><br><br> / - small form factor EP5<br> / - 1 or 2 secondary windings<br> / - 4 different turn rations<br> / - 1500VDC insulation test voltage<br> / - operating voltage up to 80V<br><br> / -- Gate Drive<br> / -- Signal<br> / -- Power<br> / -- Synchronous Flyback
footprint WE_EP5_SMD_6PIN
pins: 1 6, 3 4, 4 1, 6 3

## WE-GDT_2SW_760301103
designator T?, comment <b>SMD Gate Drive Transformer WE-GDT</b><br><br> / - small form factor EP5<br> / - 1 or 2 secondary windings<br> / - 4 different turn rations<br> / - 1500VDC insulation test voltage<br> / - operating voltage up to 80V<br><br> / -- Gate Drive<br> / -- Signal<br> / -- Power<br> / -- Synchronous Flyback
footprint WE_EP5_SMD_6PIN
pins: 1, 2 3, 3 5, 4 6, 5 4, 6 2

## WE-GDT_2SW_760301104
designator T?, comment <b>SMD Gate Drive Transformer WE-GDT</b><br><br> / - small form factor EP5<br> / - 1 or 2 secondary windings<br> / - 4 different turn rations<br> / - 1500VDC insulation test voltage<br> / - operating voltage up to 80V<br><br> / -- Gate Drive<br> / -- Signal<br> / -- Power<br> / -- Synchronous Flyback
footprint WE_EP5_SMD_6PIN
pins: 1, 2 3, 3 5, 4 6, 5 4, 6 2

## WE-GDT_2SW_760301105
designator T?, comment <b>SMD Gate Drive Transformer WE-GDT</b><br><br> / - small form factor EP5<br> / - 1 or 2 secondary windings<br> / - 4 different turn rations<br> / - 1500VDC insulation test voltage<br> / - operating voltage up to 80V<br><br> / -- Gate Drive<br> / -- Signal<br> / -- Power<br> / -- Synchronous Flyback
footprint WE_EP5_SMD_6PIN
pins: 1, 2 3, 3 5, 4 6, 5 4, 6 2

## WE-GF_L
designator L?, comment <b>SMD Wire Wound Inductor WE-GF</b><p> / - Wire wound ferrite<br> / - High resistance against dampness<br> / - 5% tolerance is available upon request<p> / -- HF-circuits like tuner, transponder etc.<br> / -- HF amplifier circuits like antennas amplifier<br> / -- Oscillator<br> / -- Filter circuits<br> / -- Amplification circuits
footprint WE-GF_L
pins: 1, 2

## WE-GF_M
designator L?, comment <b>SMD Wire Wound Inductor WE-GF</b><p> / - Wire wound ferrite<br> / - High resistance against dampness<br> / - 5% tolerance is available upon request<p> / -- HF-circuits like tuner, transponder etc.<br> / -- HF amplifier circuits like antennas amplifier<br> / -- Oscillator<br> / -- Filter circuits<br> / -- Amplification circuits
footprint WE-GF_M
pins: 1, 2

## WE-GFH_L
designator L?, comment <b>SMD RF Choke WE-GFH</b><p> / - Wire wound ferrite<br> / - For higher currents<p> / -- HF-circuits like tuner, transponder etc.
footprint WE-GFH_L
pins: 1, 2

## WE-GFH_M
designator L?, comment <b>SMD RF Choke WE-GFH</b><p> / - Wire wound ferrite<br> / - For higher currents<p> / -- HF-circuits like tuner, transponder etc.
footprint WE-GFH_M
pins: 1, 2

## WE-HCC_1090
designator L?, comment <b>SMD High Current Cube Inductor WE-HCC</b><br><br> / - magnetically shieled<br> / - current capability up to 27A<br> / - excellent saturation characteristics<br><br> / -- filter choke for DC/DC converter<br> / -- single and polyphase buck converter<br> / -- filter choke for motor electronics
footprint WE-HCC_1090
pins: 1, 2

## WE-HCC_1210
designator L?, comment <b>SMD High Current Cube Inductor WE-HCC</b><br><br> / - magnetically shieled<br> / - current capability up to 27A<br> / - excellent saturation characteristics<br><br> / -- filter choke for DC/DC converter<br> / -- single and polyphase buck converter<br> / -- filter choke for motor electronics
footprint WE-HCC_1210
pins: 1, 2

## WE-HCC_8070
designator L?, comment <b>SMD High Current Cube Inductor WE-HCC</b><br><br> / - magnetically shieled<br> / - current capability up to 27A<br> / - excellent saturation characteristics<br><br> / -- filter choke for DC/DC converter<br> / -- single and polyphase buck converter<br> / -- filter choke for motor electronics
footprint WE-HCC_8070
pins: 1, 2

## WE-HCF_2013
designator L?, comment <b>SMD High Currenr Inductor WE-HCF </b><p> / - Flat wire coil for lower losses at high frequency ranges<br> / - Core material: NiZn<br> / - Shielded ferrite construction<br><br> / -- Polyphase-switching regulators<br> / -- Multiphase-switching regulators<br> / -- High temperature electronics<br> / -- Graphic cards<br> / -- Motherboards <br> / -- Laptops<br>
footprint WE-HCF_2013
pins: 1, 2

## WE-HCI_1030
designator L?, comment <b>SMD-Flat Wire High Current Inductor WE-HCI</b><p> / - Flat wire coil for lower losses at high frequency ranges<br> / - Low leakage field <br> / - Extremely low profile design<br> / - Current loading up to 40 A<br> / - Magnetically shielded<p> / -- Graphic cards<br> / -- Laptops<br> / -- Motherboards<br> / -- High current switching regulators<br> / -- Polyphase-switching regulators<br> / -- industrial computers<br>
footprint WE-HCI_1030
pins: 1, 2

## WE-HCI_1040
designator L?, comment <b>SMD-Flat Wire High Current Inductor WE-HCI</b><p> / - Flat wire coil for lower losses at high frequency ranges<br> / - Low leakage field <br> / - Extremely low profile design<br> / - Current loading up to 40 A<br> / - Magnetically shielded<p> / -- Graphic cards<br> / -- Laptops<br> / -- Motherboards<br> / -- High current switching regulators<br> / -- Polyphase-switching regulators<br> / -- industrial computers<br>
footprint WE-HCI_1040
pins: 1, 2

## WE-HCI_1050
designator L?, comment <b>SMD-Flat Wire High Current Inductor WE-HCI</b><p> / - Flat wire coil for lower losses at high frequency ranges<br> / - Low leakage field <br> / - Extremely low profile design<br> / - Current loading up to 40 A<br> / - Magnetically shielded<p> / -- Graphic cards<br> / -- Laptops<br> / -- Motherboards<br> / -- High current switching regulators<br> / -- Polyphase-switching regulators<br> / -- industrial computers<br>
footprint WE-HCI_1050
pins: 1, 2

## WE-HCI_1335
designator L?, comment <b>SMD-Flat Wire High Current Inductor WE-HCI</b><p> / - Flat wire coil for lower losses at high frequency ranges<br> / - Low leakage field <br> / - Extremely low profile design<br> / - Current loading up to 40 A<br> / - Magnetically shielded<p> / -- Graphic cards<br> / -- Laptops<br> / -- Motherboards<br> / -- High current switching regulators<br> / -- Polyphase-switching regulators<br> / -- industrial computers<br>
footprint WE-HCI_1335
pins: 1, 2

## WE-HCI_1350/1365
designator L?, comment <b>SMD-Flat Wire High Current Inductor WE-HCI</b><p> / - Flat wire coil for lower losses at high frequency ranges<br> / - Low leakage field <br> / - Extremely low profile design<br> / - Current loading up to 40 A<br> / - Magnetically shielded<p> / -- Graphic cards<br> / -- Laptops<br> / -- Motherboards<br> / -- High current switching regulators<br> / -- Polyphase-switching regulators<br> / -- industrial computers<br>
footprint WE-HCI_1350/1365
pins: 1, 2

## WE-HCI_1890
designator L?, comment <b>SMD-Flat Wire High Current Inductor WE-HCI</b><p> / - Flat wire coil for lower losses at high frequency ranges<br> / - Low leakage field <br> / - Extremely low profile design<br> / - Current loading up to 40 A<br> / - Magnetically shielded<p> / -- Graphic cards<br> / -- Laptops<br> / -- Motherboards<br> / -- High current switching regulators<br> / -- Polyphase-switching regulators<br> / -- industrial computers<br>
footprint WE-HCI_1890
pins: 1, 2

## WE-HCI_2212
designator L?, comment <b>SMD-Flat Wire High Current Inductor WE-HCI</b><p> / - Flat wire coil for lower losses at high frequency ranges<br> / - Low leakage field <br> / - Extremely low profile design<br> / - Current loading up to 40 A<br> / - Magnetically shielded<p> / -- Graphic cards<br> / -- Laptops<br> / -- Motherboards<br> / -- High current switching regulators<br> / -- Polyphase-switching regulators<br> / -- industrial computers<br>
footprint WE-HCI_2212
pins: 1, 2

## WE-HCI_7030/7040/7050
designator L?, comment <b>SMD-Flat Wire High Current Inductor WE-HCI</b><p> / - Flat wire coil for lower losses at high frequency ranges<br> / - Low leakage field <br> / - Extremely low profile design<br> / - Current loading up to 40 A<br> / - Magnetically shielded<p> / -- Graphic cards<br> / -- Laptops<br> / -- Motherboards<br> / -- High current switching regulators<br> / -- Polyphase-switching regulators<br> / -- industrial computers<br>
footprint WE-HCI_7030/7040/7050
pins: 1, 2

## WE-HCM_1050
designator L?, comment <b>SMD High Current Flat Wire Inductor WE-HCM</b><p> / - Extremely low DC-resistance<br> / - Special design for low EMI-noise<br> / - Stable inductance at high DC-currents<br> / - Low temperature rise at high DC-currents<br> / - High saturation current up to 60A <br><br> / -- Polyphase switching regulator<br> / -- Multiphase switching regulator<br> / -- CPU / RAM power spply<br> / -- Power PC<br>
footprint WE-HCM_1050
pins: 1, 2

## WE-HCM_1052
designator L?, comment <b>SMD High Current Flat Wire Inductor WE-HCM</b><p> / - Extremely low DC-resistance<br> / - Special design for low EMI-noise<br> / - Stable inductance at high DC-currents<br> / - Low temperature rise at high DC-currents<br> / - High saturation current up to 60A <br><br> / -- Polyphase switching regulator<br> / -- Multiphase switching regulator<br> / -- CPU / RAM power spply<br> / -- Power PC<br>
footprint WE-HCM_1052
pins: 1, 2

## WE-HCM_1070
designator L?, comment <b>SMD High Current Flat Wire Inductor WE-HCM</b><p> / - Extremely low DC-resistance<br> / - Special design for low EMI-noise<br> / - Stable inductance at high DC-currents<br> / - Low temperature rise at high DC-currents<br> / - High saturation current up to 60A <br><br> / -- Polyphase switching regulator<br> / -- Multiphase switching regulator<br> / -- CPU / RAM power spply<br> / -- Power PC<br>
footprint WE-HCM_1070
pins: 1, 2

## WE-HCM_1190
designator L?, comment <b>SMD High Current Flat Wire Inductor WE-HCM</b><p> / - Extremely low DC-resistance<br> / - Special design for low EMI-noise<br> / - Stable inductance at high DC-currents<br> / - Low temperature rise at high DC-currents<br> / - High saturation current up to 60A <br><br> / -- Polyphase switching regulator<br> / -- Multiphase switching regulator<br> / -- CPU / RAM power spply<br> / -- Power PC<br>
footprint WE-HCM_1190
pins: 1, 2

## WE-HCM_1240
designator L?, comment <b>SMD High Current Flat Wire Inductor WE-HCM</b><p> / - Extremely low DC-resistance<br> / - Special design for low EMI-noise<br> / - Stable inductance at high DC-currents<br> / - Low temperature rise at high DC-currents<br> / - High saturation current up to 60A <br><br> / -- Polyphase switching regulator<br> / -- Multiphase switching regulator<br> / -- CPU / RAM power spply<br> / -- Power PC<br>
footprint WE-HCM_1240
pins: 1, 2

## WE-HCM_1350
designator L?, comment <b>SMD High Current Flat Wire Inductor WE-HCM</b><p> / - Extremely low DC-resistance<br> / - Special design for low EMI-noise<br> / - Stable inductance at high DC-currents<br> / - Low temperature rise at high DC-currents<br> / - High saturation current up to 60A <br><br> / -- Polyphase switching regulator<br> / -- Multiphase switching regulator<br> / -- CPU / RAM power spply<br> / -- Power PC<br>
footprint WE-HCM_1350
pins: 1, 2

## WE-HCM_1390
designator L?, comment <b>SMD High Current Flat Wire Inductor WE-HCM</b><p> / - Extremely low DC-resistance<br> / - Special design for low EMI-noise<br> / - Stable inductance at high DC-currents<br> / - Low temperature rise at high DC-currents<br> / - High saturation current up to 60A <br><br> / -- Polyphase switching regulator<br> / -- Multiphase switching regulator<br> / -- CPU / RAM power spply<br> / -- Power PC<br>
footprint WE-HCM_1390
pins: 1, 2

## WE-HCM_7050
designator L?, comment <b>SMD High Current Flat Wire Inductor WE-HCM</b><p> / - Extremely low DC-resistance<br> / - Special design for low EMI-noise<br> / - Stable inductance at high DC-currents<br> / - Low temperature rise at high DC-currents<br> / - High saturation current up to 60A <br><br> / -- Polyphase switching regulator<br> / -- Multiphase switching regulator<br> / -- CPU / RAM power spply<br> / -- Power PC<br>
footprint WE-HCM_7050
pins: 1, 2

## WE-HCM_7070
designator L?, comment <b>SMD High Current Flat Wire Inductor WE-HCM</b><p> / - Extremely low DC-resistance<br> / - Special design for low EMI-noise<br> / - Stable inductance at high DC-currents<br> / - Low temperature rise at high DC-currents<br> / - High saturation current up to 60A <br><br> / -- Polyphase switching regulator<br> / -- Multiphase switching regulator<br> / -- CPU / RAM power spply<br> / -- Power PC<br>
footprint WE-HCM_7070
pins: 1, 2

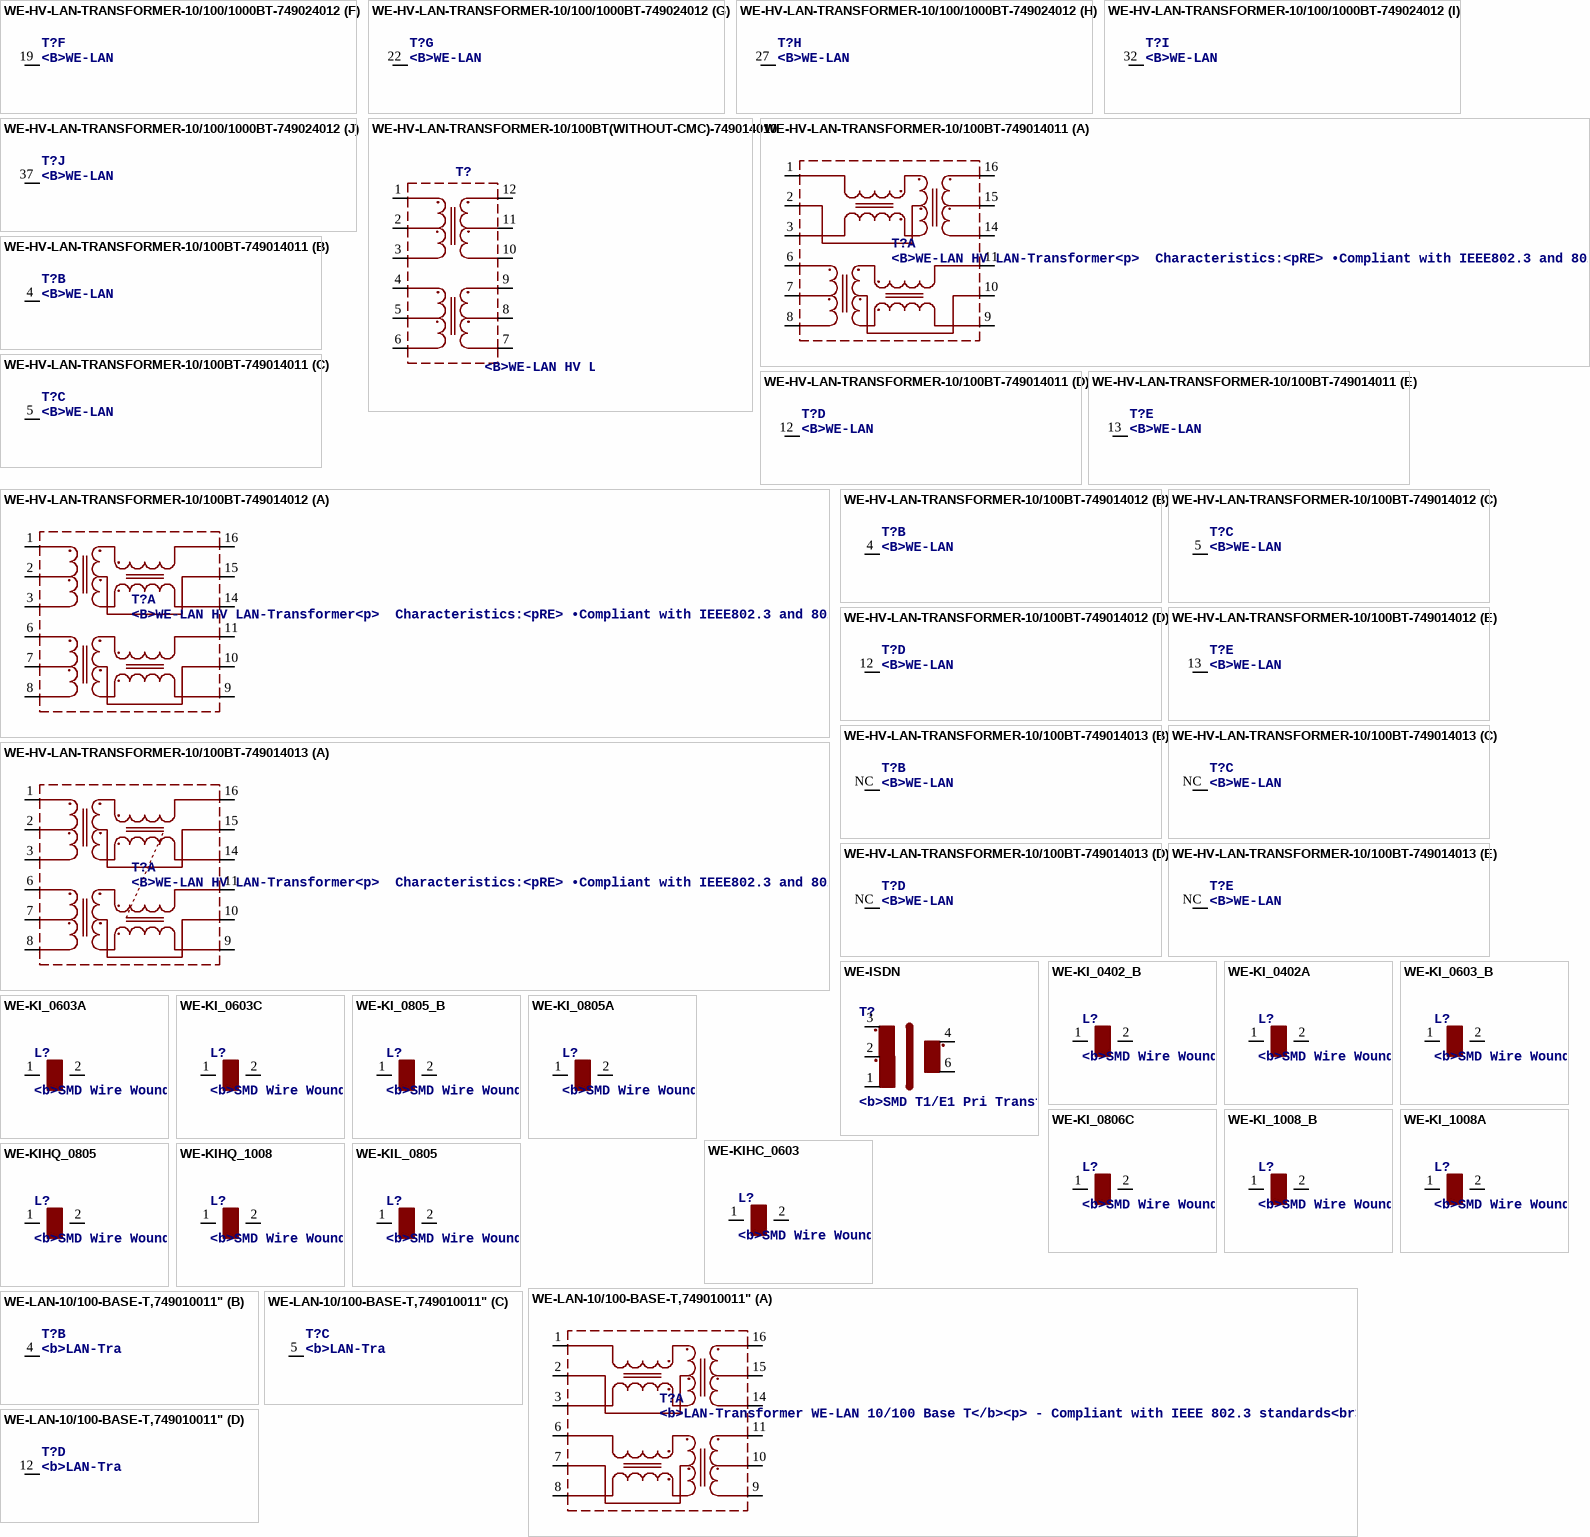
[diagram p3: symbols WE-HV-LAN-TRANSFORMER-10/100/1000BT-749024012 to WE-LAN-10/100-BASE-T,749010011"]